# Altium footprint library DPAK228P972X230-3N.PcbLib: 1 footprints
Each footprint in its own frame and in the unit in brackets; x right, y up, seen from the top. Pads: shape width x height; smd on the part's side, far side on the other; paste and mask are expansions set on the pad; w line width, h text height; cw(c..) or ccw(c..) is an arc to the next point about the centre after c.
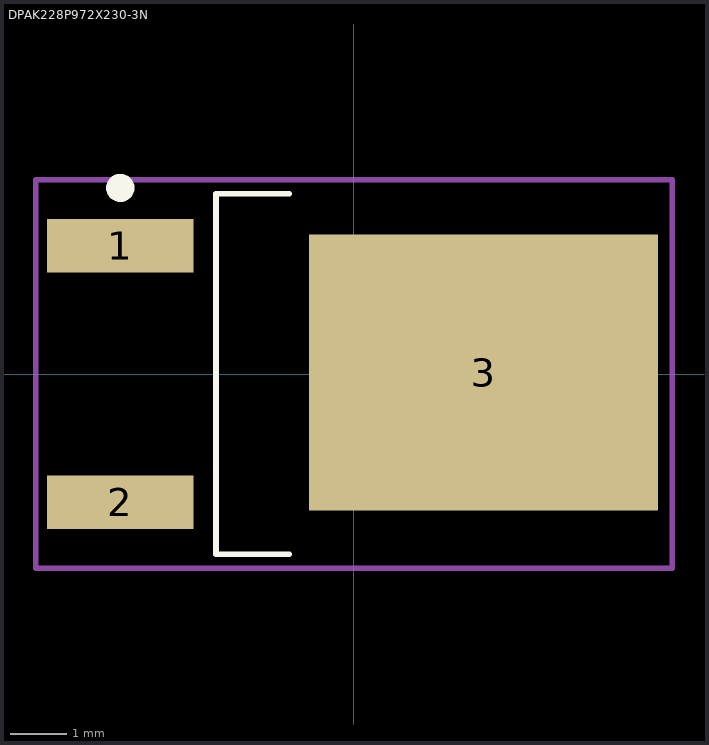
[diagram p0: the footprint, top view; thin cyan lines are the x and y axes]

## DPAK228P972X230-3N [mm] "D-PAK, 3-Pads, Body 6,40x6,56mm (max), IPC Medium Density"
height 2.3
pads (3):
  rect 2.6x0.95 smd: 1(-4.15,2.28) 2(-4.15,-2.28)
  rect 6.2x4.9 smd: 3(2.302,0.025)
Top Overlay:
  circle w0.25: c-4.15,3.305 r0.125
  lines w0.1: -1.15,-3.2 -2.45,-3.2 -2.45,3.2 -1.15,3.2
Mechanical 3:
  lines w0.1: -0.5,0 0.5,0 ; 0,-0.5 0,0.5 ; -5.65,-3.45 5.65,-3.45 5.65,3.45 -5.65,3.45 -5.65,-3.45
3D body: height 2.3, standoff 1, extent -2.5,-3.2 4.1,3.2